# Altium footprint library RECOM_R1SE.PcbLib: 1 footprints
Each footprint in its own frame and in the unit in brackets; x right, y up, seen from the top. Pads: shape width x height; smd on the part's side, far side on the other; paste and mask are expansions set on the pad; w line width, h text height; cw(c..) or ccw(c..) is an arc to the next point about the centre after c.
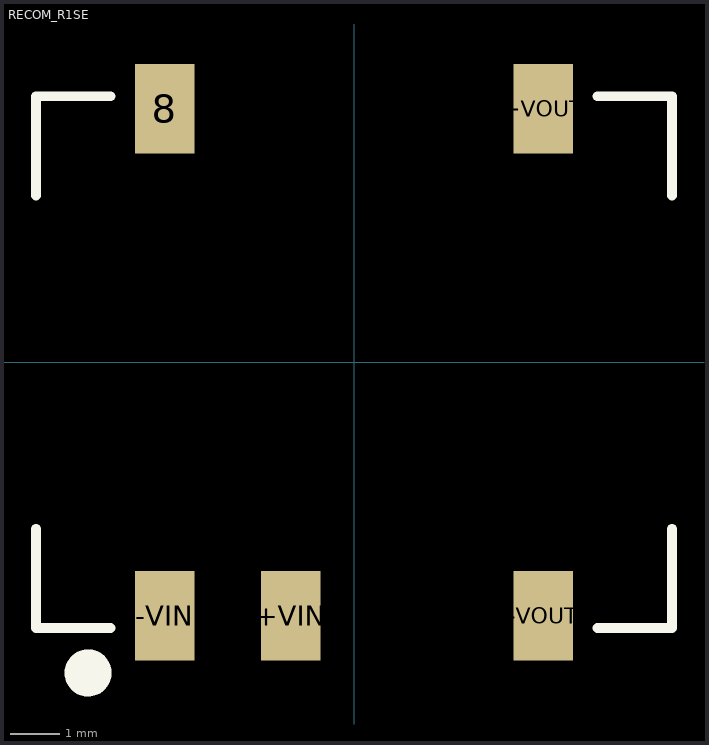
[diagram p0: the footprint, top view; thin cyan lines are the x and y axes]

## RECOM_R1SE [mm] "Recom DC-DC Converter Module R1SE series"
pads (5):
  rect 1.2x1.8 smd mask+0.05: 8(-3.81,5.1) +VIN(-1.27,-5.1) +VOUT(3.81,5.1) -VIN(-3.81,-5.1) -VOUT(3.81,-5.1)
Top Overlay:
  circle w0.5: c-5.35,-6.25 r0.224
  lines w0.2: -6.4,-3.35 -6.4,-5.35 -4.9,-5.35 ; -6.4,3.35 -6.4,5.35 -4.9,5.35 ; 4.9,-5.35 6.4,-5.35 6.4,-3.35 ; 4.9,5.35 6.4,5.35 6.4,3.35
3D body: height 6.7, standoff 0, extent -6.4,-5.35 6.4,5.35